# Altium footprint library CAPC2012X14.PcbLib: 1 footprints
Each footprint in its own frame and in the unit in brackets; x right, y up, seen from the top. Pads: shape width x height; smd on the part's side, far side on the other; paste and mask are expansions set on the pad; w line width, h text height; cw(c..) or ccw(c..) is an arc to the next point about the centre after c.
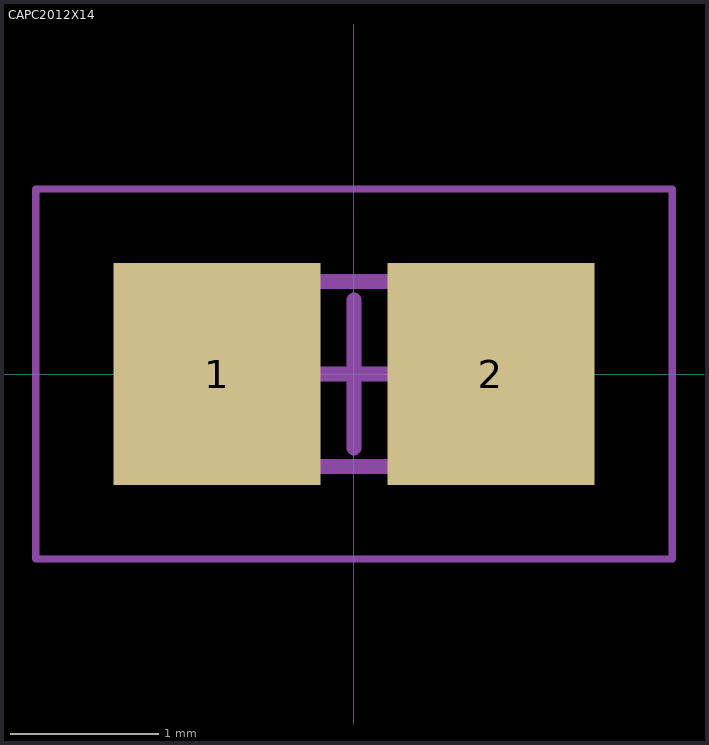
[diagram p0: the footprint, top view; thin cyan lines are the x and y axes]

## CAPC2012X14 [mm] "Chip Capacitor, 2-Leads, Body 2,00x1,25mm, IPC Low Density 0805"
height 1.35
pads (2):
  rect 1.4x1.5 smd: 1(-0.925,0) 2(0.925,0)
TopAssy:
  lines w0.1: -1,-0.625 1,-0.625 1,0.625 -1,0.625 -1,-0.625
Board:
  lines w0.05: -2.15,-1.25 -2.15,1.25 2.15,1.25 2.15,-1.25 -2.15,-1.25
  lines w0.1: -0.5,0 0.5,0 ; 0,-0.5 0,0.5
3D body "User Library-CAPC2012X___.STEP": height 1.42, standoff 0, extent -1,-0.635 1,0.635